# Altium footprint library RESC3025X055.PcbLib: 3 footprints
Each footprint in its own frame and in the unit in brackets; x right, y up, seen from the top. Pads: shape width x height; smd on the part's side, far side on the other; paste and mask are expansions set on the pad; w line width, h text height; cw(c..) or ccw(c..) is an arc to the next point about the centre after c.
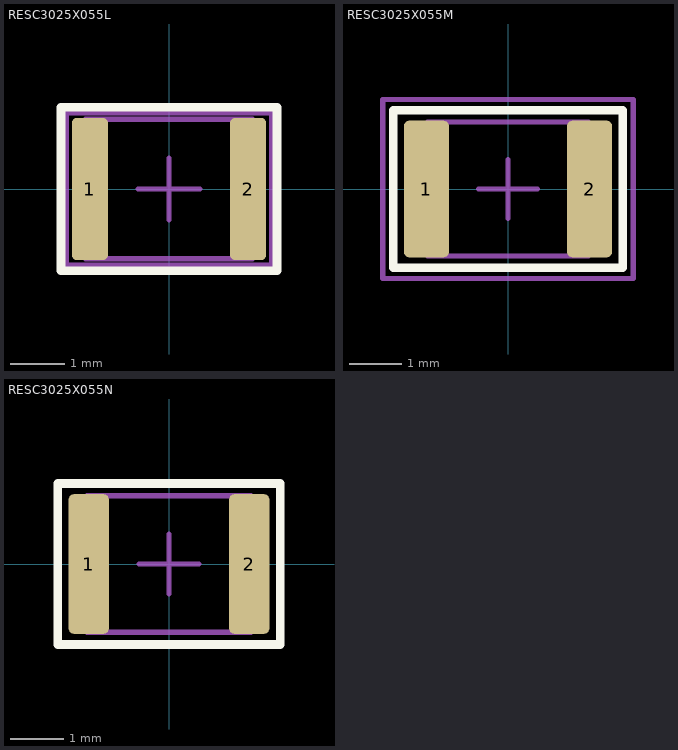
[diagram p0: the footprints below, top view; thin cyan lines are the x and y axes]

## RESC3025X055L [mm] "Resistors, Chip"
height 0.65
pads (2):
  rrect25% 0.66x2.6 smd: 1(-1.45,0) 2(1.45,0)
Top Overlay:
  lines w0.16: -1.98,-1.5 1.98,-1.5 1.98,1.5 -1.98,1.5 -1.98,-1.5
Top Component Center:
  lines w0.1: -0.56,0 0.56,0 ; 0,-0.56 0,0.56
Top Courtyard:
  lines w0.1: -1.88,-1.4 1.88,-1.4 1.88,1.4 -1.88,1.4 -1.88,-1.4
Top Assembly:
  lines w0.1: -1.525,-1.275 1.525,-1.275 1.525,1.275 -1.525,1.275 -1.525,-1.275
  text ".Designator" at 0,0 h1
3D body "RESC3025X055L.STEP": height 0.55, standoff 0, extent -1.525,-1.275 1.525,1.275

## RESC3025X055M [mm] "Resistors, Chip"
height 0.65
pads (2):
  rrect25% 0.86x2.6 smd: 1(-1.55,0) 2(1.55,0)
Top Overlay:
  lines w0.16: -2.18,-1.5 2.18,-1.5 2.18,1.5 -2.18,1.5 -2.18,-1.5
Top Component Center:
  lines w0.1: -0.56,0 0.56,0 ; 0,-0.56 0,0.56
Top Courtyard:
  lines w0.1: -2.38,-1.7 2.38,-1.7 2.38,1.7 -2.38,1.7 -2.38,-1.7
Top Assembly:
  lines w0.1: -1.525,-1.275 1.525,-1.275 1.525,1.275 -1.525,1.275 -1.525,-1.275
  text ".Designator" at 0,0 h1
3D body "RESC3025X055M.STEP": height 0.55, standoff 0, extent -1.525,-1.275 1.525,1.275

## RESC3025X055N [mm] "Resistors, Chip"
height 0.65
pads (2):
  rrect25% 0.75x2.6 smd: 1(-1.495,0) 2(1.495,0)
Top Overlay:
  lines w0.16: -2.07,-1.5 2.07,-1.5 2.07,1.5 -2.07,1.5 -2.07,-1.5
Top Component Center:
  lines w0.1: -0.56,0 0.56,0 ; 0,-0.56 0,0.56
Top Courtyard:
  lines w0.1: -2.07,-1.5 2.07,-1.5 2.07,1.5 -2.07,1.5 -2.07,-1.5
Top Assembly:
  lines w0.1: -1.525,-1.275 1.525,-1.275 1.525,1.275 -1.525,1.275 -1.525,-1.275
  text ".Designator" at 0,0 h1
3D body "RESC3025X055N.STEP": height 0.55, standoff 0, extent -1.525,-1.275 1.525,1.275